# EAGLE library part MQ_2 (library bzd)
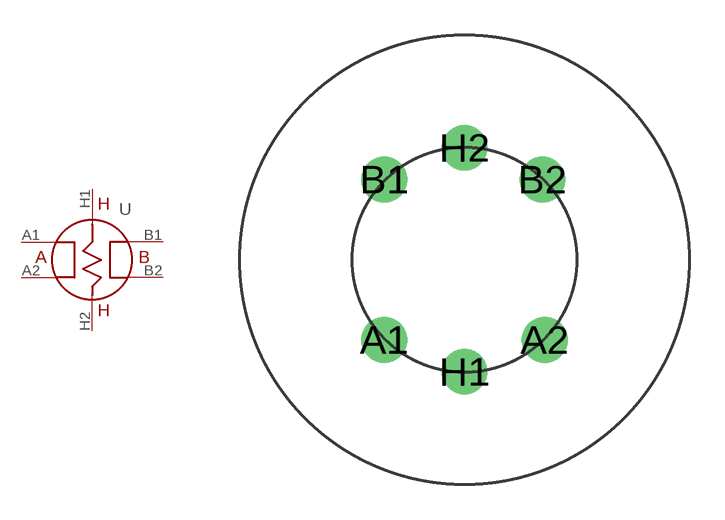
[diagram p3: symbol with the pads of MQ_2; footprint MQ_2]

Designator prefix -

## MQ_2  [MQ_2]
A1  A1
A2  A2
B1  B1
B2  B2
H1  H1
H2  H2

## Footprint MQ_2 (pad centres in mm)
drill 1.2 pad 1.93: A1 -3.4,-3.4; A2 3.4,-3.4; B1 -3.4,3.4; B2 3.3,3.4; H1 0,-4.75; H2 0,4.75